# Altium footprint library MIC1557YM5-TR.PcbLib: 3 footprints
Each footprint in its own frame and in the unit in brackets; x right, y up, seen from the top. Pads: shape width x height; smd on the part's side, far side on the other; paste and mask are expansions set on the pad; w line width, h text height; cw(c..) or ccw(c..) is an arc to the next point about the centre after c.
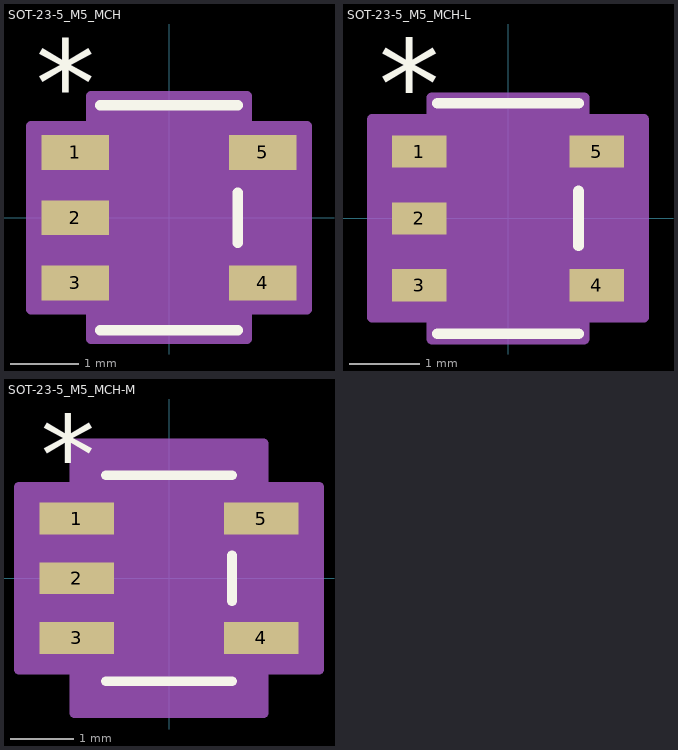
[diagram p0: the footprints below, top view; thin cyan lines are the x and y axes]

## SOT-23-5_M5_MCH [mil]
pads (5):
  rect 38.5x20 smd paste+0 mask+0: 1(-53.75,37.4) 2(-53.75,0) 3(-53.75,-37.4) 4(53.75,-37.4) 5(53.75,37.4)
Top Overlay:
  lines w6: -39.5,-64.5 39.5,-64.5 ; -39.5,64.5 39.5,64.5 ; 39.5,-14.3 39.5,14.3
  text "*" at -76.25,52.4 h50
Mechanical 13:
  lines w0: -12,59.5 ccw(c0,59.5) 12,59.5
  lines w1: -59,-47.4 -59,-27.4 -34.5,-27.4 -34.5,-47.4 -59,-47.4 ; -59,-10 -59,10 -34.5,10 -34.5,-10 -59,-10 ; -59,27.4 -59,47.4 -34.5,47.4 -34.5,27.4 -59,27.4 ; -34.5,-59.5 34.5,-59.5 34.5,59.5 -34.5,59.5 -34.5,-59.5 ; 34.5,-47.4 34.5,-27.4 59,-27.4 59,-47.4 34.5,-47.4 ; 34.5,27.4 34.5,47.4 59,47.4 59,27.4 34.5,27.4
  text "*" at -37,9.4 h50
Mechanical 15:
  region: 44.5,-69.5 -44.5,-69.5 -44.5,-52.4 -79,-52.4 -79,52.4 -44.5,52.4 -44.5,69.5 44.5,69.5 44.5,52.4 79,52.4 79,-52.4 44.5,-52.4
  lines w6: -79,-52.4 -44.5,-52.4 -44.5,-69.5 44.5,-69.5 44.5,-52.4 79,-52.4 79,52.4 44.5,52.4 44.5,69.5 -44.5,69.5 -44.5,52.4 -79,52.4 -79,-52.4
3D body "SOT-23-5_M5_MCH.step": height 51.1, standoff 0, extent -59.02,-59.49 59.02,59.49

## SOT-23-5_M5_MCH-L [mil]
pads (5):
  rect 30.5x18 smd paste+0 mask+0: 1(-49.75,37.4) 2(-49.75,0) 3(-49.75,-37.4) 4(49.75,-37.4) 5(49.75,37.4)
Top Overlay:
  lines w6: -39.5,-64.5 39.5,-64.5 ; -39.5,64.5 39.5,64.5 ; 39.5,-15.3 39.5,15.3
  text "*" at -72.25,50.4 h50
Mechanical 13:
  lines w0: -12,59.5 ccw(c0,59.5) 12,59.5
  lines w1: -59,-47.4 -59,-27.4 -34.5,-27.4 -34.5,-47.4 -59,-47.4 ; -59,-10 -59,10 -34.5,10 -34.5,-10 -59,-10 ; -59,27.4 -59,47.4 -34.5,47.4 -34.5,27.4 -59,27.4 ; -34.5,-59.5 34.5,-59.5 34.5,59.5 -34.5,59.5 -34.5,-59.5 ; 34.5,-47.4 34.5,-27.4 59,-27.4 59,-47.4 34.5,-47.4 ; 34.5,27.4 34.5,47.4 59,47.4 59,27.4 34.5,27.4
  text "*" at -37,7.4 h50
Mechanical 15:
  region: 42.5,-67.5 -42.5,-67.5 -42.5,-55.4 -76,-55.4 -76,55.4 -42.5,55.4 -42.5,67.5 42.5,67.5 42.5,55.4 76,55.4 76,-55.4 42.5,-55.4
  lines w6: -76,-55.4 -42.5,-55.4 -42.5,-67.5 42.5,-67.5 42.5,-55.4 76,-55.4 76,55.4 42.5,55.4 42.5,67.5 -42.5,67.5 -42.5,55.4 -76,55.4 -76,-55.4
3D body "SOT-23-5_M5_MCH.step": height 51.1, standoff 0, extent -59.02,-59.49 59.02,59.49

## SOT-23-5_M5_MCH-M [mil]
pads (5):
  rect 46.5x20 smd paste+0 mask+0: 1(-57.75,37.4) 2(-57.75,0) 3(-57.75,-37.4) 4(57.75,-37.4) 5(57.75,37.4)
Top Overlay:
  lines w6: -39.5,-64.5 39.5,-64.5 ; -39.5,64.5 39.5,64.5 ; 39.5,-14.3 39.5,14.3
  text "*" at -80.25,52.4 h50
Mechanical 13:
  lines w0: -12,59.5 ccw(c0,59.5) 12,59.5
  lines w1: -59,-47.4 -59,-27.4 -34.5,-27.4 -34.5,-47.4 -59,-47.4 ; -59,-10 -59,10 -34.5,10 -34.5,-10 -59,-10 ; -59,27.4 -59,47.4 -34.5,47.4 -34.5,27.4 -59,27.4 ; -34.5,-59.5 34.5,-59.5 34.5,59.5 -34.5,59.5 -34.5,-59.5 ; 34.5,-47.4 34.5,-27.4 59,-27.4 59,-47.4 34.5,-47.4 ; 34.5,27.4 34.5,47.4 59,47.4 59,27.4 34.5,27.4
  text "*" at -37,9.4 h50
Mechanical 15:
  region: 59.5,-84.5 -59.5,-84.5 -59.5,-57.4 -94,-57.4 -94,57.4 -59.5,57.4 -59.5,84.5 59.5,84.5 59.5,57.4 94,57.4 94,-57.4 59.5,-57.4
  lines w6: -94,-57.4 -59.5,-57.4 -59.5,-84.5 59.5,-84.5 59.5,-57.4 94,-57.4 94,57.4 59.5,57.4 59.5,84.5 -59.5,84.5 -59.5,57.4 -94,57.4 -94,-57.4
3D body "SOT-23-5_M5_MCH.step": height 51.1, standoff 0, extent -59.02,-59.49 59.02,59.49